# Altium schematic symbol library memory-micron.SCHLIB: 6 symbols
Pins are listed as number, name and electrical type; pins without a type are passive.

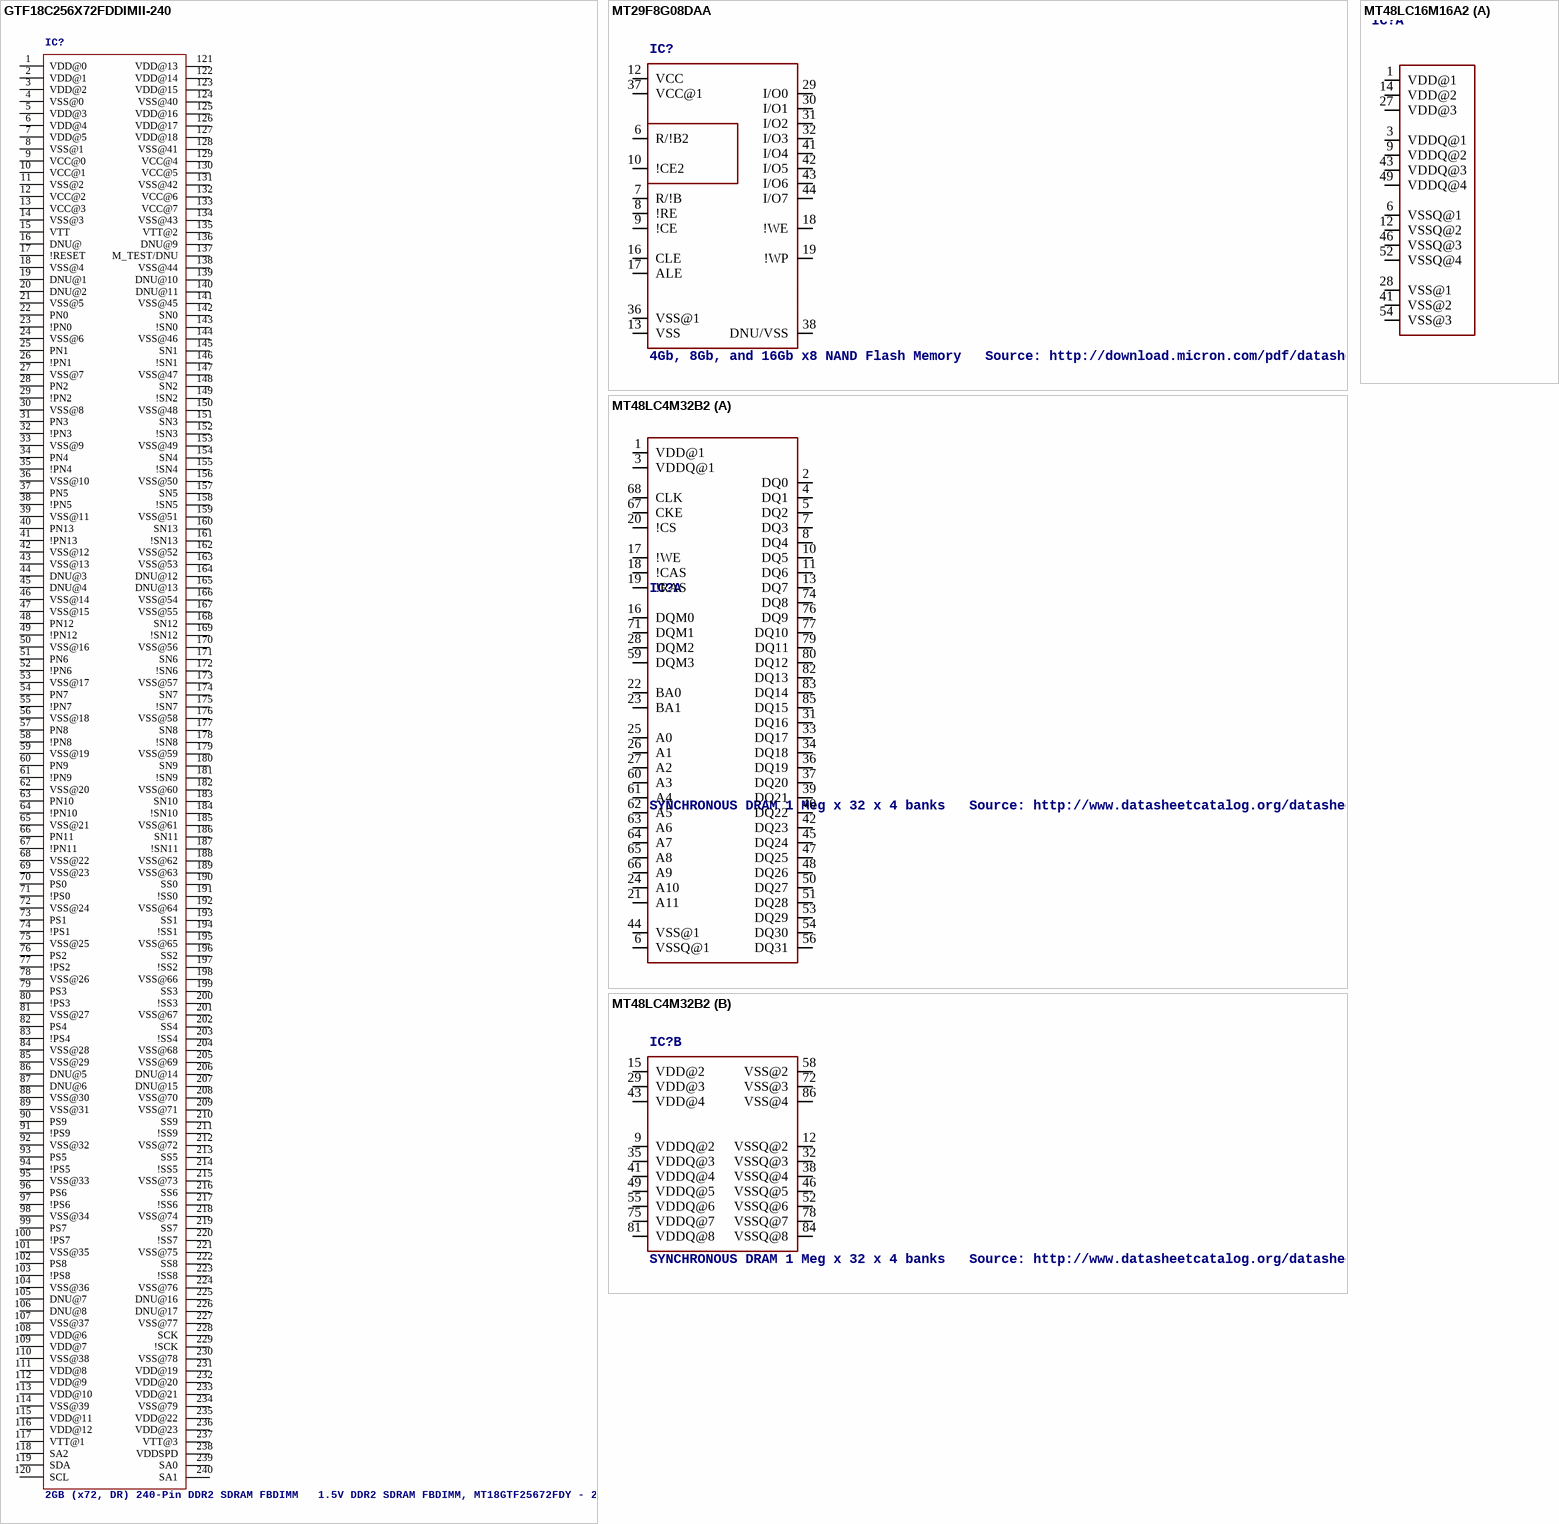
[diagram p0: symbols GTF18C256X72FDDIMII-240 to MT48LC16M16A2]

## GTF18C256X72FDDIMII-240
designator IC?, comment 2GB (x72, DR) 240-Pin DDR2 SDRAM FBDIMM   1.5V DDR2 SDRAM FBDIMM, MT18GTF25672FDY - 2GB Source: Micron Technology , GTF18C256x72FD.pdf Auto generated by make-symbol-device-package-bsdl.ulp Rev. 20
OC_FARNELL: unknown; OC_NEWARK: unknown
footprint FBDIMM-240-DDR2
pins: 1 VDD@0, 2 VDD@1, 3 VDD@2, 4 VSS@0, 5 VDD@3, 6 VDD@4, 7 VDD@5, 8 VSS@1, 9 VCC@0, 10 VCC@1, 11 VSS@2, 12 VCC@2, 13 VCC@3, 14 VSS@3, 15 VTT, 16 DNU@, 17 !RESET, 18 VSS@4, 19 DNU@1, 20 DNU@2, 21 VSS@5, 22 PN0, 23 !PN0, 24 VSS@6, 25 PN1, 26 !PN1, 27 VSS@7, 28 PN2, 29 !PN2, 30 VSS@8, 31 PN3, 32 !PN3, 33 VSS@9, 34 PN4, 35 !PN4, 36 VSS@10, 37 PN5, 38 !PN5, 39 VSS@11, 40 PN13, 41 !PN13, 42 VSS@12, 43 VSS@13, 44 DNU@3, 45 DNU@4, 46 VSS@14, 47 VSS@15, 48 PN12, 49 !PN12, 50 VSS@16, 51 PN6, 52 !PN6, 53 VSS@17, 54 PN7, 55 !PN7, 56 VSS@18, 57 PN8, 58 !PN8, 59 VSS@19, 60 PN9, 61 !PN9, 62 VSS@20, 63 PN10, 64 !PN10, 65 VSS@21, 66 PN11, 67 !PN11, 68 VSS@22, 69 VSS@23, 70 PS0, 71 !PS0, 72 VSS@24, 73 PS1, 74 !PS1, 75 VSS@25, 76 PS2, 77 !PS2, 78 VSS@26, 79 PS3, 80 !PS3, 81 VSS@27, 82 PS4, 83 !PS4, 84 VSS@28, 85 VSS@29, 86 DNU@5, 87 DNU@6, 88 VSS@30, 89 VSS@31, 90 PS9, 91 !PS9, 92 VSS@32, 93 PS5, 94 !PS5, 95 VSS@33, 96 PS6, 97 !PS6, 98 VSS@34, 99 PS7, 100 !PS7, 101 VSS@35, 102 PS8, 103 !PS8, 104 VSS@36, 105 DNU@7, 106 DNU@8, 107 VSS@37, 108 VDD@6, 109 VDD@7, 110 VSS@38, 111 VDD@8, 112 VDD@9, 113 VDD@10, 114 VSS@39, 115 VDD@11, 116 VDD@12, 117 VTT@1, 118 SA2, 119 SDA, 120 SCL, 121 VDD@13, 122 VDD@14, 123 VDD@15, 124 VSS@40, 125 VDD@16, 126 VDD@17, 127 VDD@18, 128 VSS@41, 129 VCC@4, 130 VCC@5, 131 VSS@42, 132 VCC@6, 133 VCC@7, 134 VSS@43, 135 VTT@2, 136 DNU@9, 137 M_TEST/DNU, 138 VSS@44, 139 DNU@10, 140 DNU@11, 141 VSS@45, 142 SN0, 143 !SN0, 144 VSS@46, 145 SN1, 146 !SN1, 147 VSS@47, 148 SN2, 149 !SN2, 150 VSS@48, 151 SN3, 152 !SN3, 153 VSS@49, 154 SN4, 155 !SN4, 156 VSS@50, 157 SN5, 158 !SN5, 159 VSS@51, 160 SN13, 161 !SN13, 162 VSS@52, 163 VSS@53, 164 DNU@12, 165 DNU@13, 166 VSS@54, 167 VSS@55, 168 SN12, 169 !SN12, 170 VSS@56, 171 SN6, 172 !SN6, 173 VSS@57, 174 SN7, 175 !SN7, 176 VSS@58, 177 SN8, 178 !SN8, 179 VSS@59, 180 SN9, 181 !SN9, 182 VSS@60, 183 SN10, 184 !SN10, 185 VSS@61, 186 SN11, 187 !SN11, 188 VSS@62, 189 VSS@63, 190 SS0, 191 !SS0, 192 VSS@64, 193 SS1, 194 !SS1, 195 VSS@65, 196 SS2, 197 !SS2, 198 VSS@66, 199 SS3, 200 !SS3, 201 VSS@67, 202 SS4, 203 !SS4, 204 VSS@68, 205 VSS@69, 206 DNU@14, 207 DNU@15, 208 VSS@70, 209 VSS@71, 210 SS9, 211 !SS9, 212 VSS@72, 213 SS5, 214 !SS5, 215 VSS@73, 216 SS6, 217 !SS6, 218 VSS@74, 219 SS7, 220 !SS7, 221 VSS@75, 222 SS8, 223 !SS8, 224 VSS@76, 225 DNU@16, 226 DNU@17, 227 VSS@77, 228 SCK, 229 !SCK, 230 VSS@78, 231 VDD@19, 232 VDD@20, 233 VDD@21, 234 VSS@79, 235 VDD@22, 236 VDD@23, 237 VTT@3, 238 VDDSPD, 239 SA0, 240 SA1

## MT29F8G08DAA
designator IC?, comment 4Gb, 8Gb, and 16Gb x8 NAND Flash Memory   Source: http://download.micron.com/pdf/datasheets/flash/nand/4gb_nand_m40a.pdf
OC_FARNELL: unknown; OC_NEWARK: unknown
footprint TSOP48
pins: 6 R/!B2, 7 R/!B, 8 !RE, 9 !CE, 10 !CE2, 12 VCC (power), 13 VSS (power), 16 CLE, 17 ALE, 18 !WE, 19 !WP, 25 DNU@1, 26 DNU@2, 29 I/O0, 30 I/O1, 31 I/O2, 32 I/O3, 36 VSS@1 (power), 37 VCC@1 (power), 38 DNU/VSS, 41 I/O4, 42 I/O5, 43 I/O6, 44 I/O7, 48 DNU@3

## MT48LC4M32B2
designator IC?, comment SYNCHRONOUS DRAM 1 Meg x 32 x 4 banks   Source: http://www.datasheetcatalog.org/datasheet/micron/MT48LC4M32B2.pdf
MPN: MT48LC4M32B2P-6:G; OC_FARNELL: 1216286; OC_NEWARK: 97K6124
footprint TSOP86
part A pins: 1 VDD@1 (power), 2 DQ0, 3 VDDQ@1 (power), 4 DQ1, 5 DQ2, 6 VSSQ@1 (power), 7 DQ3, 8 DQ4, 10 DQ5, 11 DQ6, 13 DQ7, 16 DQM0, 17 !WE, 18 !CAS, 19 !RAS, 20 !CS, 21 A11, 22 BA0, 23 BA1, 24 A10, 25 A0, 26 A1, 27 A2, 28 DQM2, 31 DQ16, 33 DQ17, 34 DQ18, 36 DQ19, 37 DQ20, 39 DQ21, 40 DQ22, 42 DQ23, 44 VSS@1 (power), 45 DQ24, 47 DQ25, 48 DQ26, 50 DQ27, 51 DQ28, 53 DQ29, 54 DQ30, 56 DQ31, 59 DQM3, 60 A3, 61 A4, 62 A5, 63 A6, 64 A7, 65 A8, 66 A9, 67 CKE, 68 CLK, 71 DQM1, 74 DQ8, 76 DQ9, 77 DQ10, 79 DQ11, 80 DQ12, 82 DQ13, 83 DQ14, 85 DQ15
part B pins: 9 VDDQ@2 (power), 12 VSSQ@2 (power), 15 VDD@2 (power), 29 VDD@3 (power), 32 VSSQ@3 (power), 35 VDDQ@3 (power), 38 VSSQ@4 (power), 41 VDDQ@4 (power), 43 VDD@4 (power), 46 VSSQ@5 (power), 49 VDDQ@5 (power), 52 VSSQ@6 (power), 55 VDDQ@6 (power), 58 VSS@2 (power), 72 VSS@3 (power), 75 VDDQ@7 (power), 78 VSSQ@7 (power), 81 VDDQ@8 (power), 84 VSSQ@8 (power), 86 VSS@4 (power)

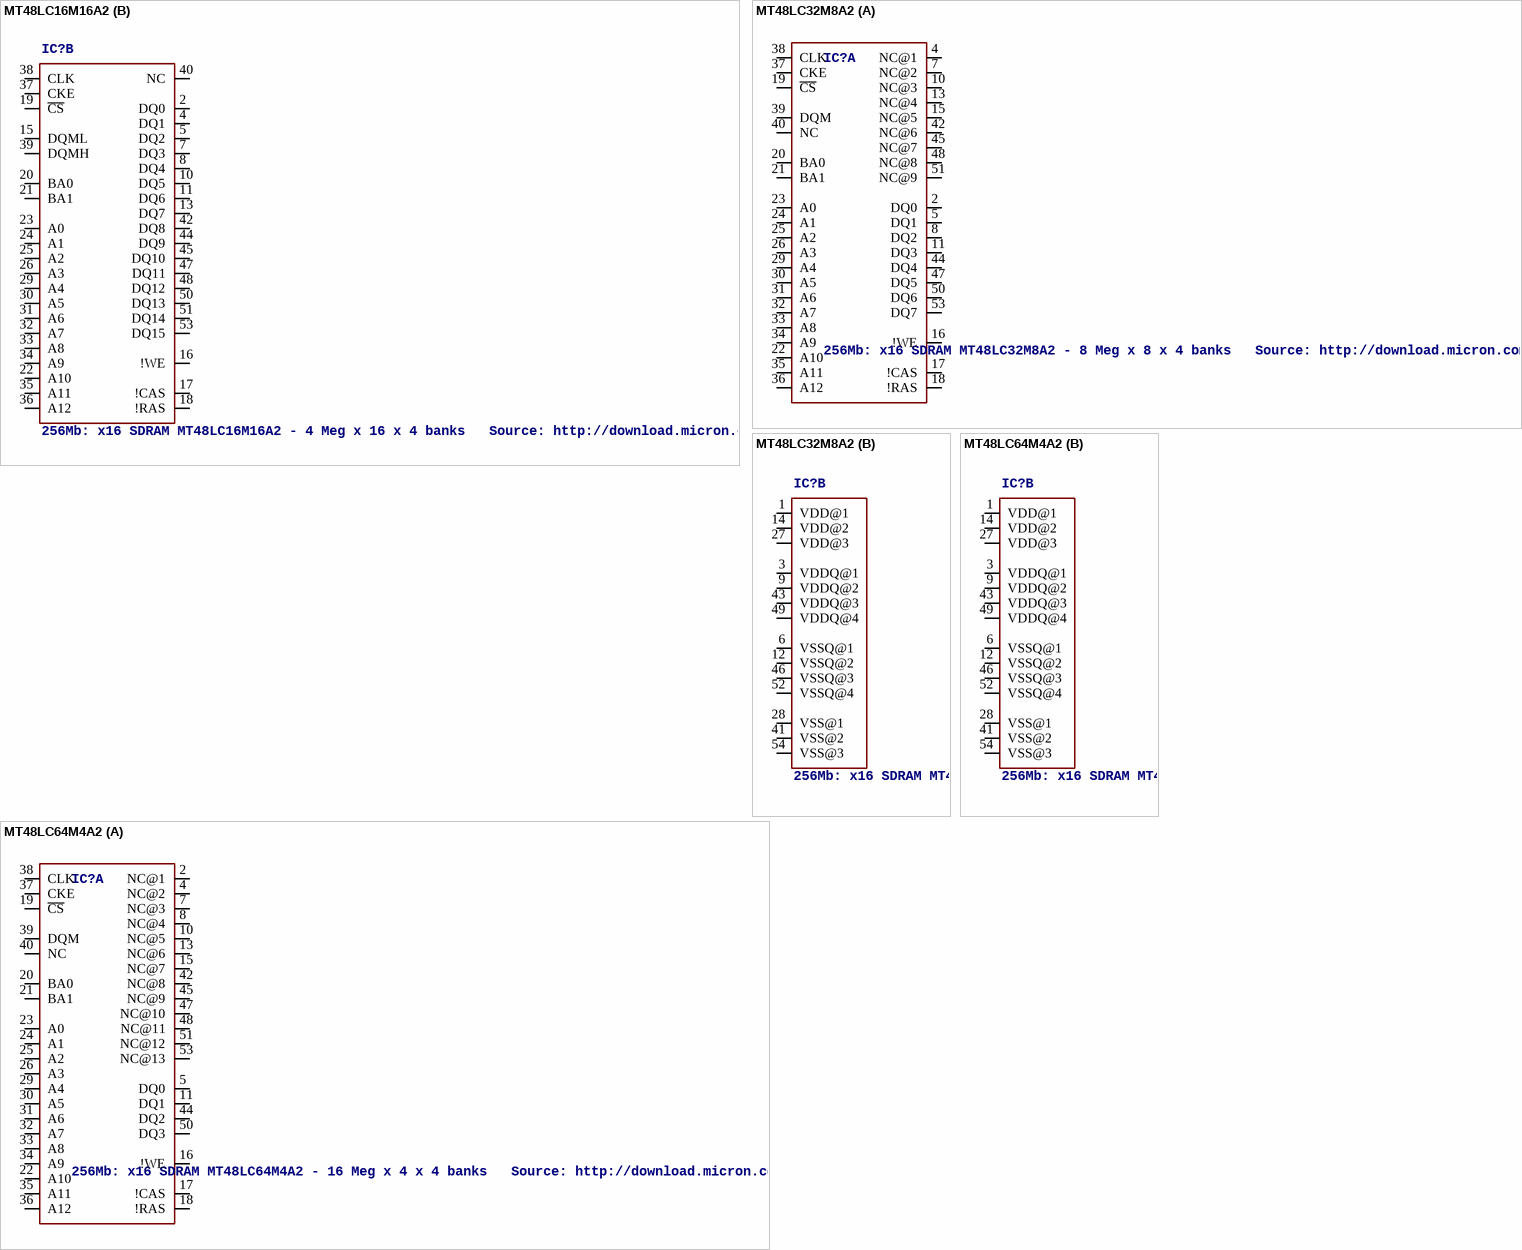
[diagram p1: symbols MT48LC16M16A2 to MT48LC64M4A2]

## MT48LC16M16A2
designator IC?, comment 256Mb: x16 SDRAM MT48LC16M16A2 - 4 Meg x 16 x 4 banks   Source: http://download.micron.com/pdf/datasheets/dram/sdram/256MSDRAM.pdf
OC_FARNELL: unknown; OC_NEWARK: unknown
footprint TSOP54-400
part A pins: 1 VDD@1 (power), 3 VDDQ@1 (power), 6 VSSQ@1 (power), 9 VDDQ@2 (power), 12 VSSQ@2 (power), 14 VDD@2 (power), 27 VDD@3 (power), 28 VSS@1 (power), 41 VSS@2 (power), 43 VDDQ@3 (power), 46 VSSQ@3 (power), 49 VDDQ@4 (power), 52 VSSQ@4 (power), 54 VSS@3 (power)
part B pins: 2 DQ0 (hiz), 4 DQ1 (hiz), 5 DQ2 (hiz), 7 DQ3 (hiz), 8 DQ4 (hiz), 10 DQ5 (hiz), 11 DQ6 (hiz), 13 DQ7 (hiz), 15 DQML, 16 !WE, 17 !CAS, 18 !RAS, 19 ~{CS}, 20 BA0, 21 BA1, 22 A10, 23 A0, 24 A1, 25 A2, 26 A3, 29 A4, 30 A5, 31 A6, 32 A7, 33 A8, 34 A9, 35 A11, 36 A12, 37 CKE, 38 CLK, 39 DQMH, 40 NC, 42 DQ8 (hiz), 44 DQ9 (hiz), 45 DQ10 (hiz), 47 DQ11 (hiz), 48 DQ12 (hiz), 50 DQ13 (hiz), 51 DQ14 (hiz), 53 DQ15 (hiz)

## MT48LC32M8A2
designator IC?, comment 256Mb: x16 SDRAM MT48LC32M8A2 - 8 Meg x 8 x 4 banks   Source: http://download.micron.com/pdf/datasheets/dram/sdram/256MSDRAM.pdf
MPN: MT48LC32M8A2P-7E:D; OC_FARNELL: 1216283; OC_NEWARK: 97K6122
footprint TSOP54-400
part A pins: 2 DQ0 (hiz), 4 NC@1, 5 DQ1 (hiz), 7 NC@2, 8 DQ2 (hiz), 10 NC@3, 11 DQ3 (hiz), 13 NC@4, 15 NC@5, 16 !WE, 17 !CAS, 18 !RAS, 19 ~{CS}, 20 BA0, 21 BA1, 22 A10, 23 A0, 24 A1, 25 A2, 26 A3, 29 A4, 30 A5, 31 A6, 32 A7, 33 A8, 34 A9, 35 A11, 36 A12, 37 CKE, 38 CLK, 39 DQM, 40 NC, 42 NC@6, 44 DQ4 (hiz), 45 NC@7, 47 DQ5 (hiz), 48 NC@8, 50 DQ6 (hiz), 51 NC@9, 53 DQ7 (hiz)
part B pins: 1 VDD@1 (power), 3 VDDQ@1 (power), 6 VSSQ@1 (power), 9 VDDQ@2 (power), 12 VSSQ@2 (power), 14 VDD@2 (power), 27 VDD@3 (power), 28 VSS@1 (power), 41 VSS@2 (power), 43 VDDQ@3 (power), 46 VSSQ@3 (power), 49 VDDQ@4 (power), 52 VSSQ@4 (power), 54 VSS@3 (power)

## MT48LC64M4A2
designator IC?, comment 256Mb: x16 SDRAM MT48LC64M4A2 - 16 Meg x 4 x 4 banks   Source: http://download.micron.com/pdf/datasheets/dram/sdram/256MSDRAM.pdf
footprint TSOP54-400
part A pins: 2 NC@1, 4 NC@2, 5 DQ0 (hiz), 7 NC@3, 8 NC@4, 10 NC@5, 11 DQ1 (hiz), 13 NC@6, 15 NC@7, 16 !WE, 17 !CAS, 18 !RAS, 19 ~{CS}, 20 BA0, 21 BA1, 22 A10, 23 A0, 24 A1, 25 A2, 26 A3, 29 A4, 30 A5, 31 A6, 32 A7, 33 A8, 34 A9, 35 A11, 36 A12, 37 CKE, 38 CLK, 39 DQM, 40 NC, 42 NC@8, 44 DQ2 (hiz), 45 NC@9, 47 NC@10, 48 NC@11, 50 DQ3 (hiz), 51 NC@12, 53 NC@13
part B pins: 1 VDD@1 (power), 3 VDDQ@1 (power), 6 VSSQ@1 (power), 9 VDDQ@2 (power), 12 VSSQ@2 (power), 14 VDD@2 (power), 27 VDD@3 (power), 28 VSS@1 (power), 41 VSS@2 (power), 43 VDDQ@3 (power), 46 VSSQ@3 (power), 49 VDDQ@4 (power), 52 VSSQ@4 (power), 54 VSS@3 (power)